# Altium footprint library Generic_Comp_Footprints.PcbLib: 67 footprints (part 4 of 5)
Each footprint in its own frame and in the unit in brackets; x right, y up, seen from the top. Pads: shape width x height; smd on the part's side, far side on the other; paste and mask are expansions set on the pad; w line width, h text height; cw(c..) or ccw(c..) is an arc to the next point about the centre after c.
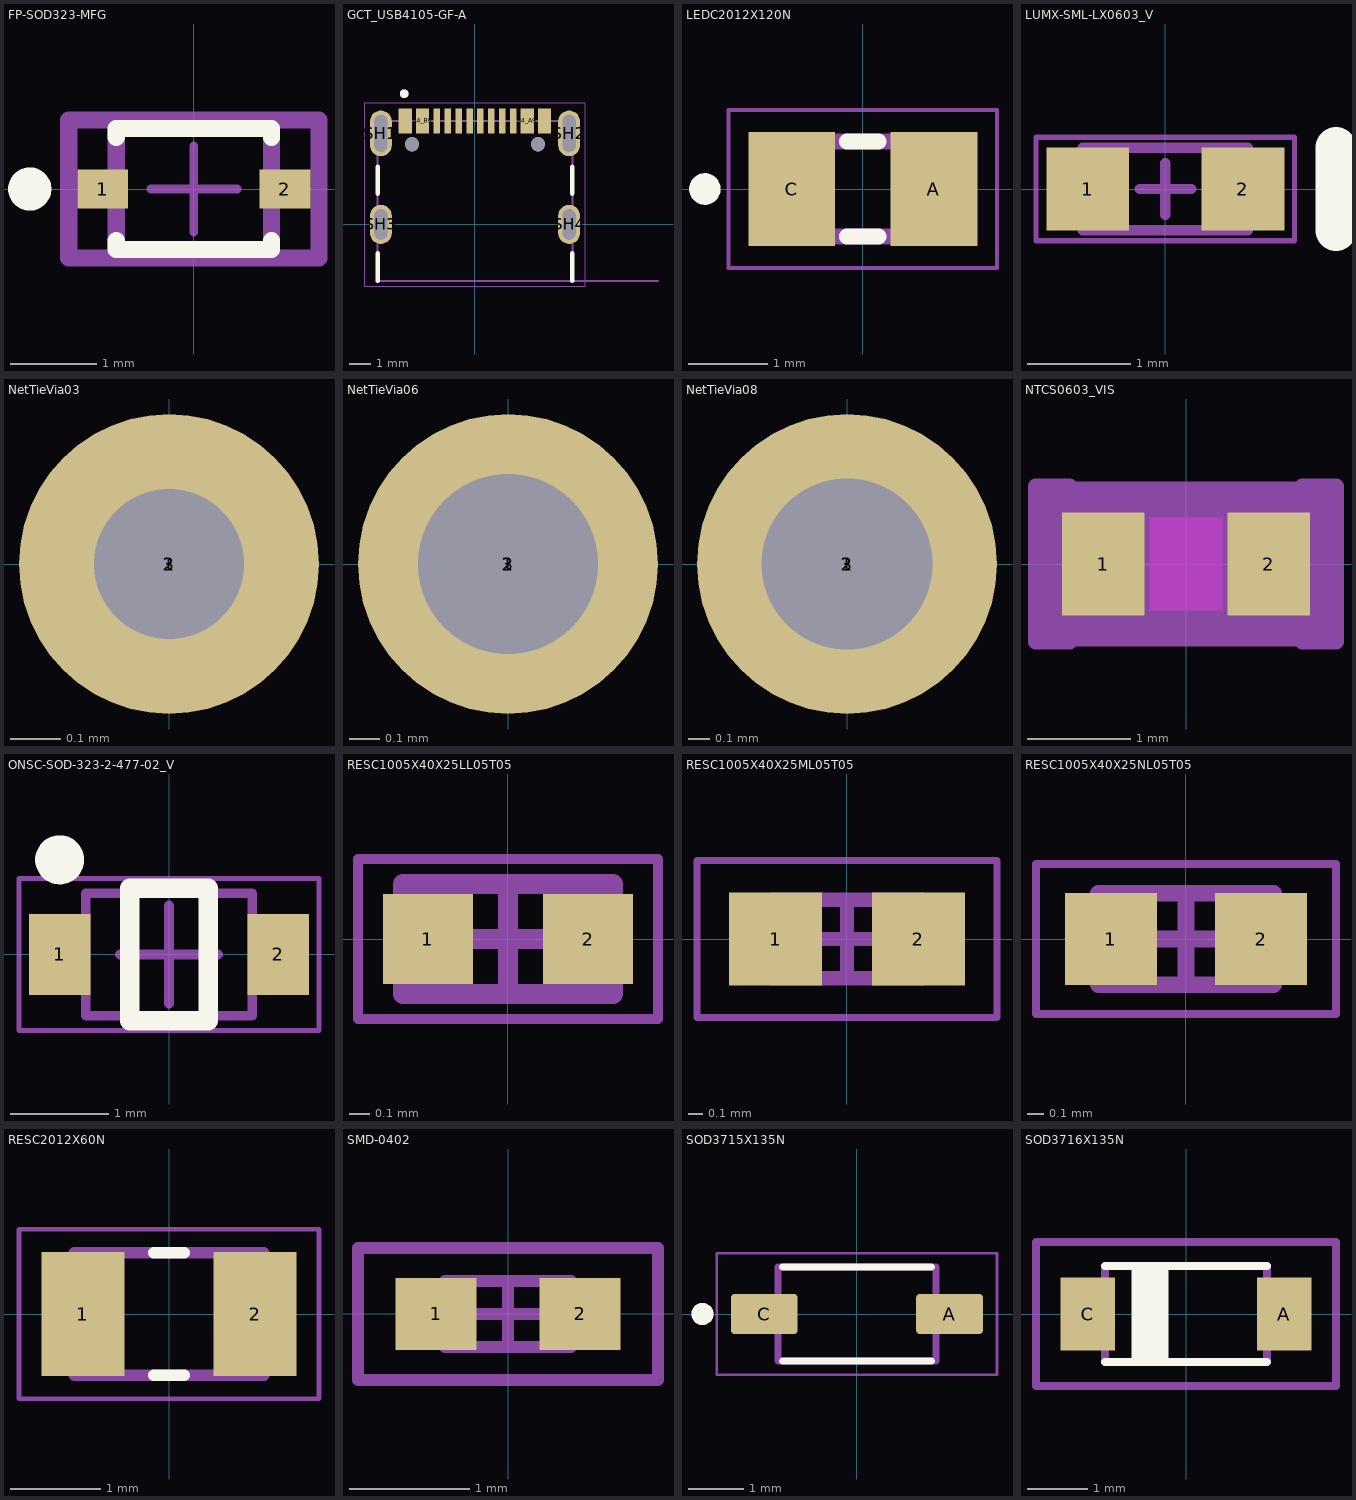
[diagram p3: the footprints below, top view; thin cyan lines are the x and y axes]

## FP-SOD323-MFG [mm]
pads (2):
  rect 0.59x0.45 smd paste+0 mask+0: 1(-1.055,0) 2(1.055,0)
Top Overlay:
  circle w0.25: c-1.9,0 r0.125
  lines w0.2: -0.9,-0.6 -0.9,-0.7 0.9,-0.7 0.9,-0.6 ; -0.9,0.6 -0.9,0.7 0.9,0.7 0.9,0.6
Top 3D Body:
  lines w0.2: -0.9,-0.7 0.9,-0.7 0.9,0.7 -0.9,0.7 -0.9,-0.7
Top Courtyard:
  lines w0.2: -1.45,-0.8 1.45,-0.8 1.45,0.8 -1.45,0.8 -1.45,-0.8
Top Assembly:
  lines w0.2: -1.45,-0.8 1.45,-0.8 1.45,0.8 -1.45,0.8 -1.45,-0.8
  text ".Designator" at 0,0.188 h1
Top Component Center:
  lines w0.1: -0.5,0 0.5,0 ; 0,-0.5 0,0.5
3D body "Diode_Diodes_Inc_BAV19WS-7-F_eec.STEP": height 0.25, standoff 0, extent -1.45,-0.8 1.45,0.8

## GCT_USB4105-GF-A [mm]
height 3.31
pads (18):
  rect 0.6x1.15 smd mask+0.05: A1_B12(-3.2,4.755) A4_B9(-2.4,4.755) B1_A12(3.2,4.755) B4_A9(2.4,4.755)
  rect 0.3x1.15 smd mask+0.05: A5(-1.25,4.755) A6(-0.25,4.755) A7(0.25,4.755) A8(1.25,4.755) B5(1.75,4.755) B6(0.75,4.755) B7(-0.75,4.755) B8(-1.75,4.755)
  oval 1x2.1 hole 0.6 slot 1.7 at 90 deg: SH1(-4.32,4.18) SH2(4.32,4.18)
  oval 1x1.8 hole 0.6 slot 1.4 at 90 deg: SH3(-4.32,0) SH4(4.32,0)
  round 0.65 hole 0.65 unplated: ""(-2.89,3.68) ""(2.89,3.68)
Top Overlay:
  circle w0.2: c-3.25,6 r0.1
  lines w0.2: -4.47,-2.6 -4.47,-1.32 ; -4.47,1.4 -4.47,2.65 ; 4.47,-2.6 4.47,-1.32 ; 4.47,1.4 4.47,2.65
Mechanical 13:
  circle w0.2: c-3.25,6 r0.1
  lines w0.1: 8.4,-2.6 4.47,-2.6 ; 4.47,-2.6 -4.47,-2.6 -4.47,4.75 4.47,4.75 4.47,-2.6
  text "PCB EDGE" at 5.4,-2.5 h0.41
Mechanical 15:
  lines w0.05: -5.07,-2.85 5.07,-2.85 5.07,5.58 -5.07,5.58 -5.07,-2.85

## LEDC2012X120N [mm]
pads (2):
  rect 1.1x1.45 smd: A(0.9,0) C(-0.9,0)
Top Overlay:
  circle w0.2: c-2,0 r0.1
  lines w0.2: -0.2,-0.6 0.2,-0.6 ; -0.2,0.6 0.2,0.6
Mechanical 13:
  region: -0.5,-0.6 -1,-0.6 -1,0.6 -0.5,0.6
  region: 1,-0.6 0.5,-0.6 0.5,0.6 1,0.6
  lines w0.2: -1,-0.6 1,-0.6 1,0.6 -1,0.6 -1,-0.6
Mechanical 15:
  lines w0.05: -1.7,-1 1.7,-1 1.7,1 -1.7,1 -1.7,-1
3D body "step_temp.STEP": height 0.9, standoff 0, extent -1,-0.65 1,0.65

## LUMX-SML-LX0603_V [mm] "SMD, 2-Leads, Body 1.6x0.8mm"
height 0.85
pads (2):
  rect 0.8x0.8 smd: 1(-0.75,0) 2(0.75,0)
Top Overlay:
  lines w0.4: 1.65,-0.4 1.65,0.4
Mechanical 13:
  lines w0.1: -0.8,-0.4 0.8,-0.4 0.8,0.4 -0.8,0.4 -0.8,-0.4
Mechanical 15:
  lines w0.05: -1.25,-0.5 1.25,-0.5 1.25,0.5 -1.25,0.5 -1.25,-0.5
  lines w0.1: -0.25,0 0.25,0 ; 0,-0.25 0,0.25
3D body: height 0.85, standoff 0, extent -0.5,-0.4 0.5,0.4
3D body: height 0.55, standoff 0, extent -0.8,-0.4 0.8,0.4

## NetTieVia03 [mm] "Net Tie Via 0.3mm"
height 0.025
pads (3):
  round 0.6 hole 0.3 paste-2539.97: 1(0,0) 2(0,0) 3(0,0)

## NetTieVia06 [mm] "Net Tie Via 0.6mm"
height 0.025
pads (3):
  round 1 hole 0.6 paste-2539.97: 1(0,0) 2(0,0) 3(0,0)

## NetTieVia08 [mm] "Net Tie Via 0.8mm"
height 0.025
pads (3):
  round 1.4 hole 0.8 paste-2539.97: 1(0,0) 2(0,0) 3(0,0)

## NTCS0603_VIS [mm]
pads (2):
  rect 0.8x1 smd paste+0 mask+0: 1(-0.8,0) 2(0.8,0)
Top Layer keep-out:
  region: -0.349,-0.449 -0.349,0.449 0.349,0.449 0.349,-0.449
Mechanical 13:
  lines w0.025: -0.876,-0.47 -0.876,0.47 0.876,0.47 0.876,-0.47 -0.876,-0.47
Mechanical 15:
  region: -1.13,-0.754 -1.454,-0.754 -1.454,0.754 -1.13,0.754 -1.13,0.724 1.13,0.724 1.13,0.754 1.454,0.754 1.454,-0.754 1.13,-0.754 1.13,-0.724 -1.13,-0.724
  lines w0.152: -1.454,-0.754 -1.13,-0.754 -1.13,-0.724 1.13,-0.724 1.13,-0.754 1.454,-0.754 1.454,0.754 1.13,0.754 1.13,0.724 -1.13,0.724 -1.13,0.754 -1.454,0.754 -1.454,-0.754
3D body "NTCS0603_VIS.step": height 0.94, standoff 0, extent -0.876,-0.47 0.876,0.47

## ONSC-SOD-323-2-477-02_V [mm] "SOD, 2-Leads, Body 1.7x1.25mm"
height 1.062
pads (2):
  rect 0.63x0.83 smd: 1(-1.115,0) 2(1.115,0)
Top Overlay:
  circle w0.25: c-1.115,0.965 r0.125
  lines w0.2: -0.4,-0.675 0.4,-0.675 0.4,0.675 -0.4,0.675 -0.4,-0.675
Mechanical 13:
  lines w0.1: -0.85,-0.625 0.85,-0.625 0.85,0.625 -0.85,0.625 -0.85,-0.625
Mechanical 15:
  lines w0.05: -1.53,-0.775 1.53,-0.775 1.53,0.775 -1.53,0.775 -1.53,-0.775
  lines w0.1: -0.5,0 0.5,0 ; 0,-0.5 0,0.5
3D body: height 1.06, standoff 0, extent -0.85,-0.625 0.85,0.625

## RESC1005X40X25LL05T05 [mm] "Chip Resistor, 2-Leads, Body 1.00x0.50mm, IPC High Density"
height 0.4
pads (2):
  rect 0.45x0.45 smd: 1(-0.4,0) 2(0.4,0)
Mechanical 13:
  lines w0.1: -0.525,-0.275 0.525,-0.275 0.525,0.275 -0.525,0.275 -0.525,-0.275
Mechanical 15:
  lines w0.05: -0.75,-0.4 0.75,-0.4 0.75,0.4 -0.75,0.4 -0.75,-0.4
  lines w0.1: -0.275,0 0.275,0 ; 0,-0.275 0,0.275
3D body: height 0.4, standoff 0, extent 0.275,-0.275 0.525,0.275
3D body: height 0.4, standoff 0, extent -0.525,-0.275 -0.275,0.275
3D body: height 0.4, standoff 0, extent -0.275,-0.275 0.275,0.275

## RESC1005X40X25ML05T05 [mm] "Chip Resistor, 2-Leads, Body 1.00x0.50mm, IPC Low Density"
height 0.4
pads (2):
  rect 0.65x0.65 smd: 1(-0.5,0) 2(0.5,0)
Mechanical 13:
  lines w0.1: -0.525,-0.275 -0.525,0.275 0.525,0.275 0.525,-0.275 -0.525,-0.275
Mechanical 15:
  lines w0.05: -1.05,-0.55 -1.05,0.55 1.05,0.55 1.05,-0.55 -1.05,-0.55
  lines w0.1: -0.275,0 0.275,0 ; 0,-0.275 0,0.275
3D body: height 0.4, standoff 0, extent -0.275,-0.275 0.275,0.275
3D body: height 0.4, standoff 0, extent -0.525,-0.275 -0.275,0.275
3D body: height 0.4, standoff 0, extent 0.275,-0.275 0.525,0.275

## RESC1005X40X25NL05T05 [mm] "Chip Resistor, 2-Leads, Body 1.00x0.50mm, IPC Medium Density"
height 0.4
pads (2):
  rect 0.55x0.55 smd: 1(-0.45,0) 2(0.45,0)
Mechanical 13:
  lines w0.1: -0.525,-0.275 0.525,-0.275 0.525,0.275 -0.525,0.275 -0.525,-0.275
Mechanical 15:
  lines w0.05: -0.9,-0.45 0.9,-0.45 0.9,0.45 -0.9,0.45 -0.9,-0.45
  lines w0.1: -0.275,0 0.275,0 ; 0,-0.275 0,0.275
3D body: height 0.4, standoff 0, extent 0.275,-0.275 0.525,0.275
3D body: height 0.4, standoff 0, extent -0.525,-0.275 -0.275,0.275
3D body: height 0.4, standoff 0, extent -0.275,-0.275 0.275,0.275

## RESC2012X60N [mm]
pads (2):
  rect 0.92x1.38 smd: 1(-0.955,0) 2(0.955,0)
Top Overlay:
  lines w0.127: -0.17,-0.68 0.17,-0.68 ; -0.17,0.68 0.17,0.68
Mechanical 13:
  lines w0.127: -1.05,-0.68 -1.05,0.68 1.05,0.68 1.05,-0.68 -1.05,-0.68
Mechanical 15:
  lines w0.05: -1.665,-0.94 -1.665,0.94 1.665,0.94 1.665,-0.94 -1.665,-0.94
3D body "step_temp.STEP": height 0.6, standoff 0, extent -1,-0.625 1,0.625

## SMD-0402 [mm] "Chip Inductor, 2-Leads, Body 1.0x0.5mm"
height 0.6
pads (2):
  rect 0.675x0.6 smd: 1(-0.6,0) 2(0.6,0)
Mechanical 13:
  lines w0.1: -0.525,-0.275 0.525,-0.275 0.525,0.275 -0.525,0.275 -0.525,-0.275
Mechanical 15:
  lines w0.1: -0.275,0 0.275,0 ; 0,-0.275 0,0.275 ; -1.25,-0.55 1.25,-0.55 1.25,0.55 -1.25,0.55 -1.25,-0.55
3D body "74279273.stp": height 0.49, standoff -0.01, extent -0.5,-0.25 0.5,0.25

## SOD3715X135N [mm]
pads (2):
  rrect18% 1.21x0.73 smd paste+0 mask+0.102: A(1.68,0) C(-1.68,0)
Top Overlay:
  circle w0.2: c-2.8,0 r0.1
  lines w0.127: -1.35,-0.85 1.35,-0.85 ; -1.35,0.85 1.35,0.85
Mechanical 13:
  circle w0.2: c-2.8,0 r0.1
  lines w0.127: -1.43,-0.85 1.43,-0.85 1.43,0.85 -1.43,0.85 -1.43,-0.85
Mechanical 15:
  lines w0.05: -2.54,-1.1 2.54,-1.1 2.54,1.1 -2.54,1.1 -2.54,-1.1
3D body "step_temp.STEP": height 1.1, standoff -0.5, extent 0,-1.1 3.8,-0.1

## SOD3716X135N [mm]
pads (2):
  rect 0.91x1.22 smd: A(1.635,0) C(-1.635,0)
Top Overlay:
  region: -0.3,-0.801 -0.901,-0.801 -0.901,0.8 -0.3,0.8
  lines w0.127: -1.35,-0.8 1.35,-0.8 ; -1.35,0.8 1.35,0.8
Mechanical 13:
  lines w0.127: -1.35,-0.8 -1.35,0.8 ; 1.35,-0.8 1.35,0.8
Mechanical 15:
  lines w0.127: -2.5,-1.2 2.5,-1.2 2.5,1.2 -2.5,1.2 -2.5,-1.2
3D body "step_temp.STEP": height 1.35, standoff 0, extent -1.84,-0.8 1.84,0.8